# Altium schematic symbol library IHLP3232DZER5R6M11.SchLib: 1 symbol
Pins are listed as number, name and electrical type; pins without a type are passive.

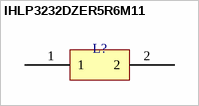
[diagram p0: symbol IHLP3232DZER5R6M11]

## IHLP3232DZER5R6M11
designator L?  (value not drawn)
footprint IHLP3232DZER5R6M11
pins: 1, 2